# Altium schematic symbol library Diode 1N4148.Schlib: 1 symbol
Pins are listed as number, name and electrical type; pins without a type are passive.

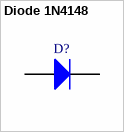
[diagram p0: symbol Diode 1N4148]

## Diode 1N4148
designator D?
High Conductance Fast Diode
pins: 1 A, 2 K